# EAGLE library part SAMC21(48TQFP) (library my library)
SAM C21 micro in 48-tqfp package
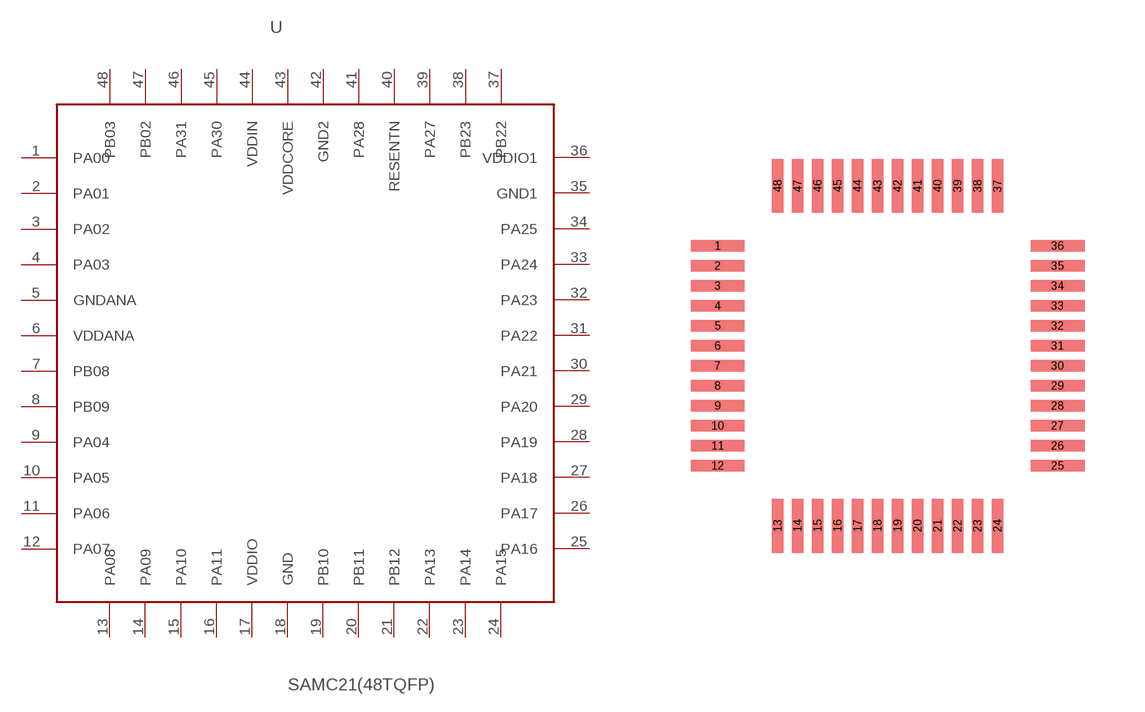
[diagram p5: symbol with the pads of TQFP-48; footprint TQFP-48]

Designator prefix -

## SAMC21(48TQFP)  [TQFP-48]
1  PA00
2  PA01
3  PA02
4  PA03
5  GNDANA
6  VDDANA
7  PB08
8  PB09
9  PA04
10  PA05
11  PA06
12  PA07
13  PA08
14  PA09
15  PA10
16  PA11
17  VDDIO
18  GND
19  PB10
20  PB11
21  PB12
22  PA13
23  PA14
24  PA15
25  PA16
26  PA17
27  PA18
28  PA19
29  PA20
30  PA21
31  PA22
32  PA23
33  PA24
34  PA25
35  GND1
36  VDDIO1
37  PB22
38  PB23
39  PA27
40  RESENTN
41  PA28
42  GND2
43  VDDCORE
44  VDDIN
45  PA30
46  PA31
47  PB02
48  PB03

## Footprint TQFP-48 (pad centres in mm)
smd 1.35 x 0.29: 1 -4,2.5; 2 -4,2; 3 -4,1.5; 4 -4,1; 5 -4,0.5; 6 -4,0; 7 -4,-0.5; 8 -4,-1; 9 -4,-1.5; 10 -4,-2; 11 -4,-2.5; 12 -4,-3; 25 4.5,-3; 26 4.5,-2.5; 27 4.5,-2; 28 4.5,-1.5; 29 4.5,-1; 30 4.5,-0.5; 31 4.5,0; 32 4.5,0.5; 33 4.5,1; 34 4.5,1.5; 35 4.5,2; 36 4.5,2.5
smd 0.29 x 1.35: 13 -2.5,-4.5; 14 -2,-4.5; 15 -1.5,-4.5; 16 -1,-4.5; 17 -0.5,-4.5; 18 0,-4.5; 19 0.5,-4.5; 20 1,-4.5; 21 1.5,-4.5; 22 2,-4.5; 23 2.5,-4.5; 24 3,-4.5; 37 3,4; 38 2.5,4; 39 2,4; 40 1.5,4; 41 1,4; 42 0.5,4; 43 0,4; 44 -0.5,4; 45 -1,4; 46 -1.5,4; 47 -2,4; 48 -2.5,4